# Altium footprint library AltiumOpenLibs.PcbLib: 173 footprints (part 6 of 11)
Each footprint in its own frame and in the unit in brackets; x right, y up, seen from the top. Pads: shape width x height; smd on the part's side, far side on the other; paste and mask are expansions set on the pad; w line width, h text height; cw(c..) or ccw(c..) is an arc to the next point about the centre after c.
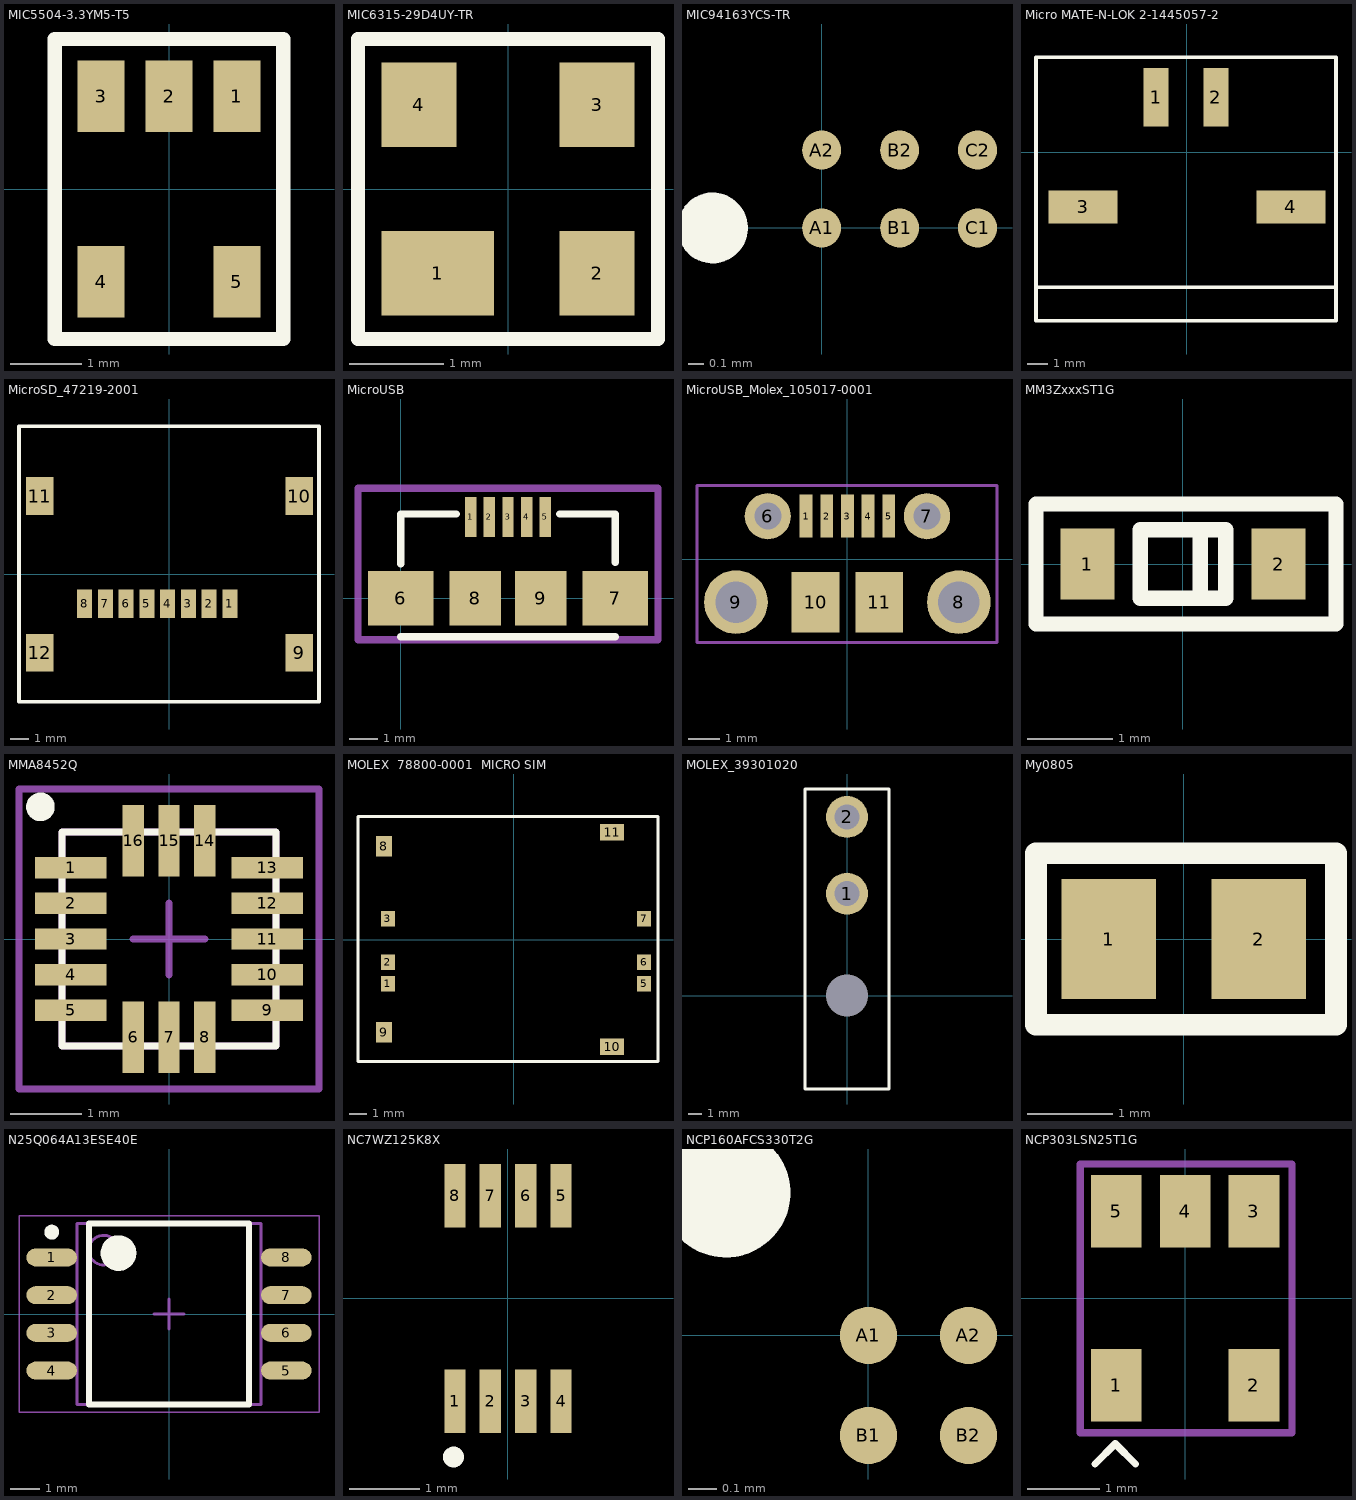
[diagram p5: the footprints below, top view; thin cyan lines are the x and y axes]

## MIC5504-3.3YM5-T5 [mm]
pads (5):
  rect 0.66x1 smd mask+0.07: 1(0.95,1.3) 2(0,1.3) 3(-0.95,1.3) 4(-0.95,-1.3) 5(0.95,-1.3)
Top Overlay:
  lines w0.2: -1.6,-2.1 1.6,-2.1 1.6,2.1 -1.6,2.1 -1.6,-2.1

## MIC6315-29D4UY-TR [mm]
pads (4):
  rect 1.2x0.9 smd: 1(-0.75,-0.9)
  rect 0.8x0.9 smd: 2(0.95,-0.9) 3(0.95,0.9) 4(-0.95,0.9)
Top Overlay:
  lines w0.15: -1.6,-1.6 1.6,-1.6 1.6,1.6 -1.6,1.6 -1.6,-1.6

## MIC94163YCS-TR [mm]
pads (6):
  round 0.25 smd paste-0.25 mask+0.1: A1(0,0) A2(0,0.5) B1(0.5,0) B2(0.5,0.5) C1(1,0) C2(1,0.5)
Top Overlay:
  circle w0.254: c-0.7,0 r0.1

## Micro MATE-N-LOK 2-1445057-2 [mm]
pads (4):
  rect 1.27x2.92 smd: 1(-1.55,2.74) 2(1.45,2.74)
  rect 3.43x1.65 smd: 3(-5.2,-2.74) 4(5.2,-2.74)
Top Overlay:
  lines w0.178: -7.55,-6.76 7.45,-6.76 ; -7.55,-8.42 7.45,-8.42 7.45,4.74 -2.25,4.74 -7.55,4.74 -7.55,-8.42

## MicroSD_47219-2001 [mm]
pads (12):
  rect 0.8x1.5 smd mask+0.07: 1(3.205,-1.55) 2(2.105,-1.55) 3(1.005,-1.55) 4(-0.095,-1.55) 5(-1.195,-1.55) 6(-2.295,-1.55) 7(-3.395,-1.55) 8(-4.495,-1.55)
  rect 1.45x2 smd mask+0.07: 9(6.875,-4.15) 10(6.875,4.15) 11(-6.875,4.15) 12(-6.875,-4.15)
Top Overlay:
  lines w0.2: -7.975,-6.75 7.925,-6.75 7.925,7.85 -7.975,7.85 -7.975,-6.75

## MicroUSB [mm]
pads (9):
  rect 0.4x1.4 smd: 1(2.45,2.85) 2(3.1,2.85) 3(3.75,2.85) 4(4.4,2.85) 5(5.05,2.85)
  rect 2.3x1.9 smd: 6(0,0) 7(7.5,0)
  rect 1.8x1.9 smd: 8(2.6,0) 9(4.9,0)
Top Overlay:
  lines w0.254: 0,-1.35 7.5,-1.35 ; 0,1.2 0,2.95 1.95,2.95 ; 5.55,2.95 7.5,2.95 7.5,1.25
Mechanical 15:
  lines w0.254: -1.5,-1.45 9,-1.45 9,3.85 -1.5,3.85 -1.5,3.75 -1.5,-1.45

## MicroUSB_Molex_105017-0001 [mm]
pads (11):
  rect 0.4x1.35 smd: 1(-1.3,1.35) 2(-0.65,1.35) 3(0,1.35) 4(0.65,1.35) 5(1.3,1.35)
  round 1.45 hole 0.85: 6(-2.5,1.35) 7(2.5,1.35)
  round 2 hole 1.3: 8(3.5,-1.35) 9(-3.5,-1.35)
  rect 1.5x1.9 smd: 10(-1,-1.35) 11(1,-1.35)
Mechanical 15:
  lines w0.1: -4.724,-2.616 4.699,-2.616 4.699,2.311 -4.724,2.311 -4.724,-2.616

## MM3ZxxxST1G [mm]
pads (2):
  rect 0.63x0.83 smd: 1(-1.115,0) 2(1.115,0)
Top Overlay:
  lines w0.178: 0.2,-0.4 0.2,0.4 ; -1.715,-0.7 1.785,-0.7 1.785,0.7 -1.715,0.7 -1.715,-0.7 ; -0.5,-0.4 0.5,-0.4 0.5,0.4 -0.5,0.4 -0.5,-0.4

## MMA8452Q [mm]
pads (16):
  rect 1x0.3 smd: 1(-1.375,1) 2(-1.375,0.5) 3(-1.375,0) 4(-1.375,-0.5) 5(-1.375,-1) 9(1.375,-1) 10(1.375,-0.5) 11(1.375,0) 12(1.375,0.5) 13(1.375,1)
  rect 0.3x1 smd: 6(-0.5,-1.375) 7(0,-1.375) 8(0.5,-1.375) 14(0.5,1.375) 15(0,1.375) 16(-0.5,1.375)
Top Overlay:
  circle w0.2: c-1.8,1.85 r0.1
  lines w0.1: -1.5,-1.5 1.5,-1.5 1.5,1.5 -1.5,1.5 -1.5,-1.5
Mechanical 15:
  lines w0.1: -0.5,0 0.5,0 ; 0,-0.5 0,0.5 ; -2.1,-2.1 2.1,-2.1 2.1,2.1 -2.1,2.1 -2.1,-2.1 ; -1.5,-1.5 -1.5,1.5 1.5,1.5 1.5,-1.5 -1.5,-1.5
3D body: height 1, standoff 0.05, extent -1.55,-1.55 1.55,1.55

## MOLEX  78800-0001  MICRO SIM [mm]
pads (10):
  rect 0.8x0.9 smd: 1(-7.355,-2.57) 2(-7.355,-1.33) 3(-7.355,1.21) 5(7.585,-2.57) 6(7.585,-1.33) 7(7.585,1.21)
  rect 0.95x1.2 smd: 8(-7.585,5.43) 9(-7.585,-5.42)
  rect 1.4x0.95 smd: 10(5.725,-6.26) 11(5.725,6.26)
Top Overlay:
  lines w0.178: -9.1,-7.12 8.4,-7.12 8.4,7.18 -9.1,7.18 -9.1,-7.1
3D body "788000001.stp": height 1.5, standoff -0.01, extent -9.08,-6.925 7.88,6.925

## MOLEX_39301020 [mm]
pads (3):
  round 0 hole 3 mask+0.07: 0(0,0)
  round 3 hole 1.8 mask+0.07: 1(0,7.3) 2(0,12.8)
Top Overlay:
  lines w0.2: -3,-6.7 -3,14.8 3,14.8 3,-6.7 -3,-6.7

## My0805 [mm]
pads (2):
  rect 1.1x1.4 smd paste+0: 1(-0.875,0)
  rect 1.1x1.4 smd: 2(0.875,0)
Top Overlay:
  lines w0.254: -1.725,-1 -1.725,1 1.775,1 1.775,-1 -1.725,-1

## N25Q064A13ESE40E [mm] "SOIC, 8-Leads, Body 6.05x5.62mm, Pitch 1.27mm, IPC Medium Density"
height 2.5
pads (8):
  oval 1.7x0.6 smd: 1(-3.95,1.905) 2(-3.95,0.635) 3(-3.95,-0.635) 4(-3.95,-1.905) 5(3.95,-1.905) 6(3.95,-0.635) 7(3.95,0.635) 8(3.95,1.905)
Top Overlay:
  circle w0.6: c-1.7,2.05 r0.3
  circle w0.25: c-3.95,2.755 r0.125
  lines w0.2: -2.7,-3.05 2.7,-3.05 2.7,3.05 -2.7,3.05 -2.7,-3.05
Mechanical 13:
  circle w0.1: c-2.2,2.15 r0.5
  lines w0.1: -3.1,-3.05 3.1,-3.05 3.1,3.05 -3.1,3.05 -3.1,-3.05
Mechanical 15:
  lines w0.05: -5.05,-3.3 5.05,-3.3 5.05,3.3 -5.05,3.3 -5.05,-3.3
  lines w0.1: -0.5,0 0.5,0 ; 0,-0.5 0,0.5
3D body: height 2.5, standoff 0, extent -3.1,-3.05 3.1,3.05

## NC7WZ125K8X [mm]
pads (8):
  rect 0.3x0.9 smd: 1(-0.75,-1.45) 2(-0.25,-1.45) 3(0.25,-1.45) 4(0.75,-1.45) 5(0.75,1.45) 6(0.25,1.45) 7(-0.25,1.45) 8(-0.75,1.45)
Top Overlay:
  circle w0.1: c-0.77,-2.24 r0.098
  rectangle: -0.84,-2.3 -0.7,-2.17

## NCP160AFCS330T2G [mm]
pads (4):
  round 0.2 smd paste-0.2 mask+0.1: A1(0,0) A2(0.35,0) B1(0,-0.35) B2(0.35,-0.35)
Top Overlay:
  circle w0.254: c-0.5,0.5 r0.1

## NCP303LSN25T1G [mm]
pads (5):
  rect 0.7x1 smd: 1(-0.95,-1.2) 2(0.95,-1.2) 3(0.95,1.2) 4(0,1.2) 5(-0.95,1.2)
Top Overlay:
  lines w0.1: -1.245,-2.286 -0.965,-2.007 -0.686,-2.286
Mechanical 15:
  lines w0.1: -1.448,-1.854 -1.448,1.854 1.473,1.854 1.473,-1.854 -1.448,-1.854